# EAGLE library part OPA548T (library trafshlib)
High-Voltage, High-Current, Wide-Output-Voltage-Swing Power Operational Amplfier Source: Datasheet <http://www.ti.com/lit/ds/symlink/opa548.pdf>
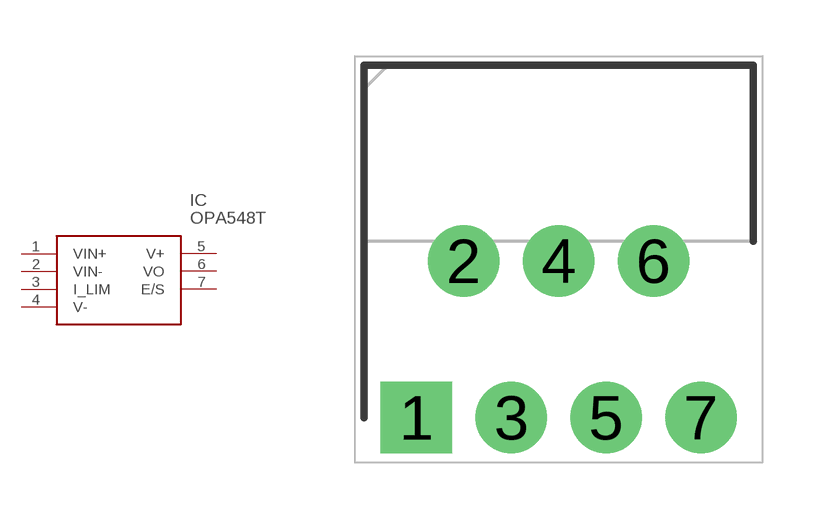
[diagram p20: symbol with the pads of TO127P470X1016X2195-7P; footprint TO127P470X1016X2195-7P]

Designator prefix IC

## OPA548T (DESCRIPTION: High-Voltage, High-Current, Wide-Output-Voltage-Swing Power Operational Amplfier; HEIGHT: 4.7mm; MANUFACTURER_NAME: Texas Instruments; MANUFACTURER_PART_NUMBER: OPA548T; MOUSER_PART_NUMBER: 595-OPA548T; MOUSER_PRICE-STOCK: https://www.mouser.com/Search/Refine.aspx?Keyword=595-OPA548T; RS_PART_NUMBER: 6525678P; RS_PRICE-STOCK: http://uk.rs-online.com/web/p/products/6525678P)  [TO127P470X1016X2195-7P]
1  VIN+  in
2  VIN-  in
3  I_LIM
4  V-
5  V+
6  VO
7  E/S

## Footprint TO127P470X1016X2195-7P (pad centres in mm)
KVT (R-PZFM-T7)
drill 1.27 pad 1.905 square: 1 0,0
drill 1.27 pad 1.905: 2 1.27,4.19; 3 2.54,0; 4 3.81,4.19; 5 5.08,0; 6 6.35,4.19; 7 7.62,0